# Altium footprint library USB-A-M.PcbLib: 1 footprints
Each footprint in its own frame and in the unit in brackets; x right, y up, seen from the top. Pads: shape width x height; smd on the part's side, far side on the other; paste and mask are expansions set on the pad; w line width, h text height; cw(c..) or ccw(c..) is an arc to the next point about the centre after c.
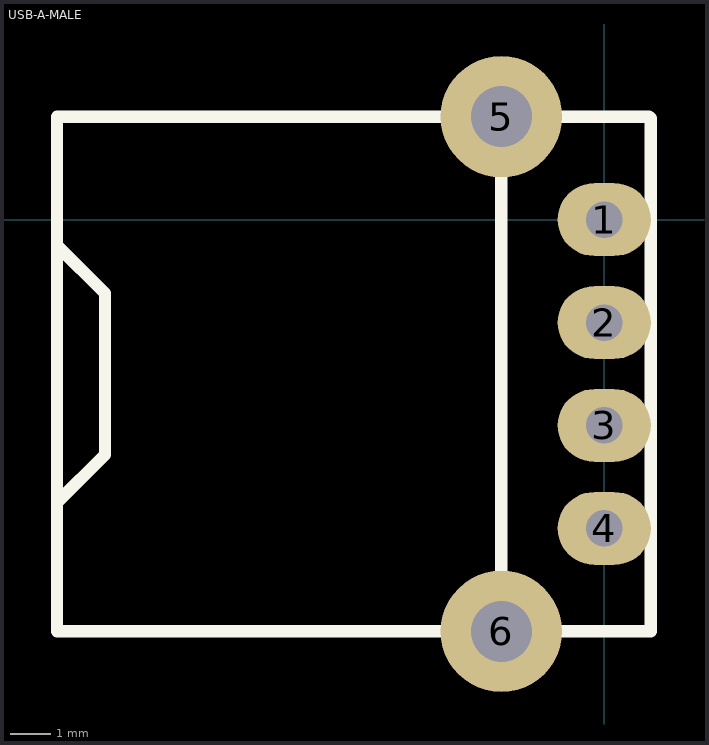
[diagram p0: the footprint, top view; thin cyan lines are the x and y axes]

## USB-A-MALE [mm]
pads (6):
  oval 2.3x1.8 hole 0.9: 1(0,0) 2(0,-2.54) 3(0,-5.08) 4(0,-7.62)
  round 3 hole 1.5: 5(-2.54,2.54) 6(-2.54,-10.16)
Top Overlay:
  lines w0.305: -2.54,-9.398 -2.54,1.778 ; -13.502,-6.985 -13.502,-10.16 1.143,-10.16 1.143,2.5 1.103,2.54 -13.502,2.54 -13.502,-0.635 ; -13.502,-6.985 -12.319,-5.802 -12.319,-1.818 -13.502,-0.635 ; -13.502,-6.985 -13.502,-0.635